# EAGLE library part LCA110S (library jmsaavedra)
LCA110S Solid State Relay 6-pin SMT http://www.clare.com/home/pdfs.nsf/www/LCA110.pdf/$file/LCA110.pdf Digikey: CLA102CT-ND
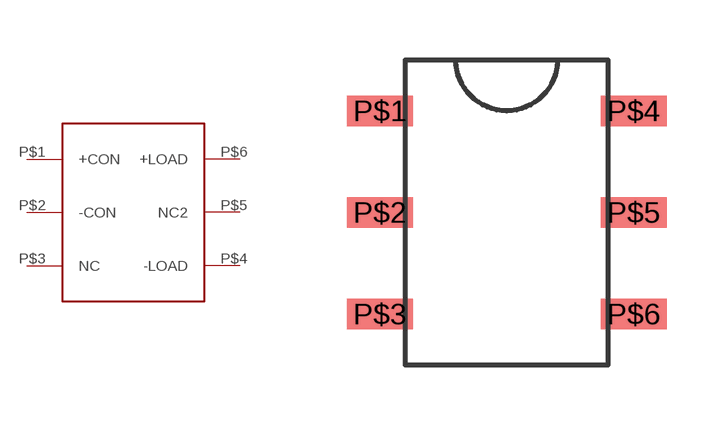
[diagram p0: symbol with the pads of 6-SMD; footprint 6-SMD]

Designator prefix -

## LCA110S  [6-SMD]
P$1  +CON
P$2  -CON
P$3  NC
P$4  -LOAD
P$5  NC2
P$6  +LOAD

## Footprint 6-SMD (pad centres in mm)
smd 1.651 x 0.762: P$1 -3.175,2.54; P$2 -3.175,0; P$3 -3.175,-2.54; P$4 3.175,2.54; P$5 3.175,0; P$6 3.175,-2.54